# Altium schematic symbol library MT-MONITOR V1.0.0.SCHLIB: 48 symbols
Pins are listed as number, name and electrical type; pins without a type are passive.

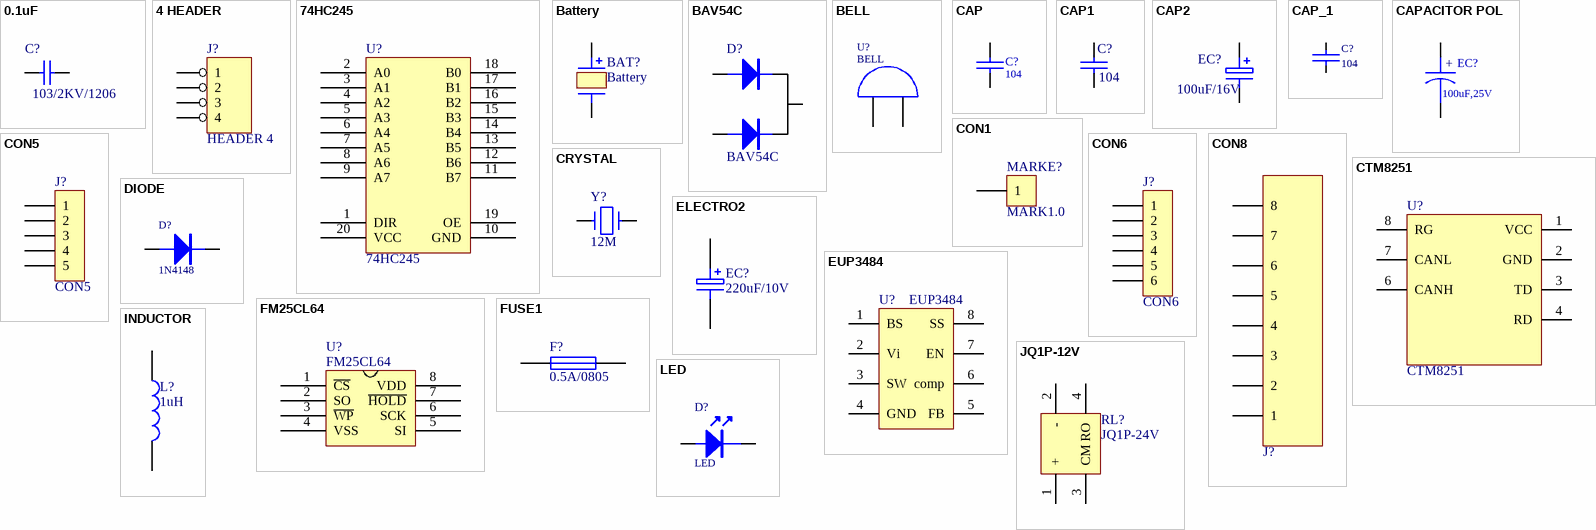
[diagram p0: symbols 0.1uF to LED]

## 0.1uF
designator C?, comment 103/2KV/1206
C0603; Published: *; LatestRevisionDate: *; LatestRevisionNote: *; Publisher: *; Value: *
footprint C0603
footprint CAPR2.54-5.1x3.2
footprint CAPR5.08-7.8x3.2
footprint 1206C
pins: 1, 2
2 alternate drawings of the same symbol

## 4 HEADER
designator J?, comment HEADER 4
4 Pin Header
footprint KF2EDG-4P-3.81mm
footprint LS141V-2.54-4P
pins: 1, 2, 3, 4
2 alternate drawings of the same symbol

## 74HC245
designator U?
footprint TSSOP20
pins: 1 DIR, 2 A0, 3 A1, 4 A2, 5 A3, 6 A4, 7 A5, 8 A6, 9 A7, 10 GND, 11 B7, 12 B6, 13 B5, 14 B4, 15 B3, 16 B2, 17 B1, 18 B0, 19 OE, 20 VCC
2 alternate drawings of the same symbol

## Battery
designator BAT?
footprint battery
pins: 1, 2

## BAV54C
designator D?
footprint SOT23
pins: 1 A, 2 K, 3 A

## BELL
designator U?
footprint BUZ
pins: 1 A, 2 B
2 alternate drawings of the same symbol

## CAP
designator C?, comment 104
Capacitor
footprint C0805
footprint CO20
footprint CO10
footprint 0603C
pins: 1, 2
2 alternate drawings of the same symbol

## CAP1
designator C?, comment 104
CAP
footprint C0805D
footprint 0603C
pins: 1, 2
2 alternate drawings of the same symbol

## CAP2
designator EC?, comment 100uF/16V
footprint SOT23
footprint C7
footprint C100UF16VEJ
pins: 1, 2
2 alternate drawings of the same symbol

## CAP_1
designator C?, comment 104
footprint C0.2
footprint CAP0.2
footprint 0805
footprint 0603C
pins: 1, 2
2 alternate drawings of the same symbol

## CAPACITOR POL
designator EC?, comment 100uF,25V
Capacitor
footprint C100UF16VEJ
pins: 1, 2
2 alternate drawings of the same symbol
text: +

## CON1
designator MARKE?, comment MARK1.0
Connector
footprint MARK1.0
pins: 1
2 alternate drawings of the same symbol

## CON5
designator J?
Connector
footprint USB-A
pins: 1, 2, 3, 4, 5
2 alternate drawings of the same symbol

## CON6
designator J?
Connector
footprint CON6-2.54mm-90
pins: 1, 2, 3, 4, 5, 6
2 alternate drawings of the same symbol

## CON8
designator J?  (value not drawn)
footprint HY-8A-2.00mm
pins: 1, 2, 3, 4, 5, 6, 7, 8

## CRYSTAL
designator Y?, comment 12M
footprint ZS-YZ
footprint ZS_SMD
pins: 1, 2
2 alternate drawings of the same symbol

## CTM8251
designator U?
footprint CTM8251KT
pins: 1 VCC, 2 GND, 3 TD, 4 RD, 6 CANH, 7 CANL, 8 RG

## DIODE
designator D?, comment 1N4148
footprint DR40
footprint D1206
footprint 1206D
pins: 1 A, 2 K
2 alternate drawings of the same symbol

## ELECTRO2
designator EC?, comment 220uF/10V
footprint C470UF25V
footprint C100UF16V
pins: 1, 2
2 alternate drawings of the same symbol

## EUP3484
designator U?
footprint SOP8
pins: 1 BS, 2 Vi, 3 SW, 4 GND, 5 FB, 6 comp, 7 EN, 8 SS
2 alternate drawings of the same symbol

## FM25CL64
designator U?
footprint SOP8
pins: 1 ~{CS}, 2 SO, 3 ~{WP}, 4 VSS, 5 SI, 6 SCK, 7 ~{HOLD}, 8 VDD
2 alternate drawings of the same symbol

## FUSE1
designator F?, comment 0.5A/0805
Fuse
footprint 0805R
pins: 1, 2
2 alternate drawings of the same symbol

## INDUCTOR
designator L?, comment 1uH
footprint 0805R
pins: 1, 2
2 alternate drawings of the same symbol

## JQ1P-12V
designator RL?, comment JQ1P-24V
footprint ZY1212FKS-2W
footprint HF32F-12V
pins: 1 +, 2 -, 3 CM, 4 RO
2 alternate drawings of the same symbol

## LED
designator D?
footprint LED1
footprint LED2
footprint D1206
footprint D0805
pins: 1, 2
2 alternate drawings of the same symbol

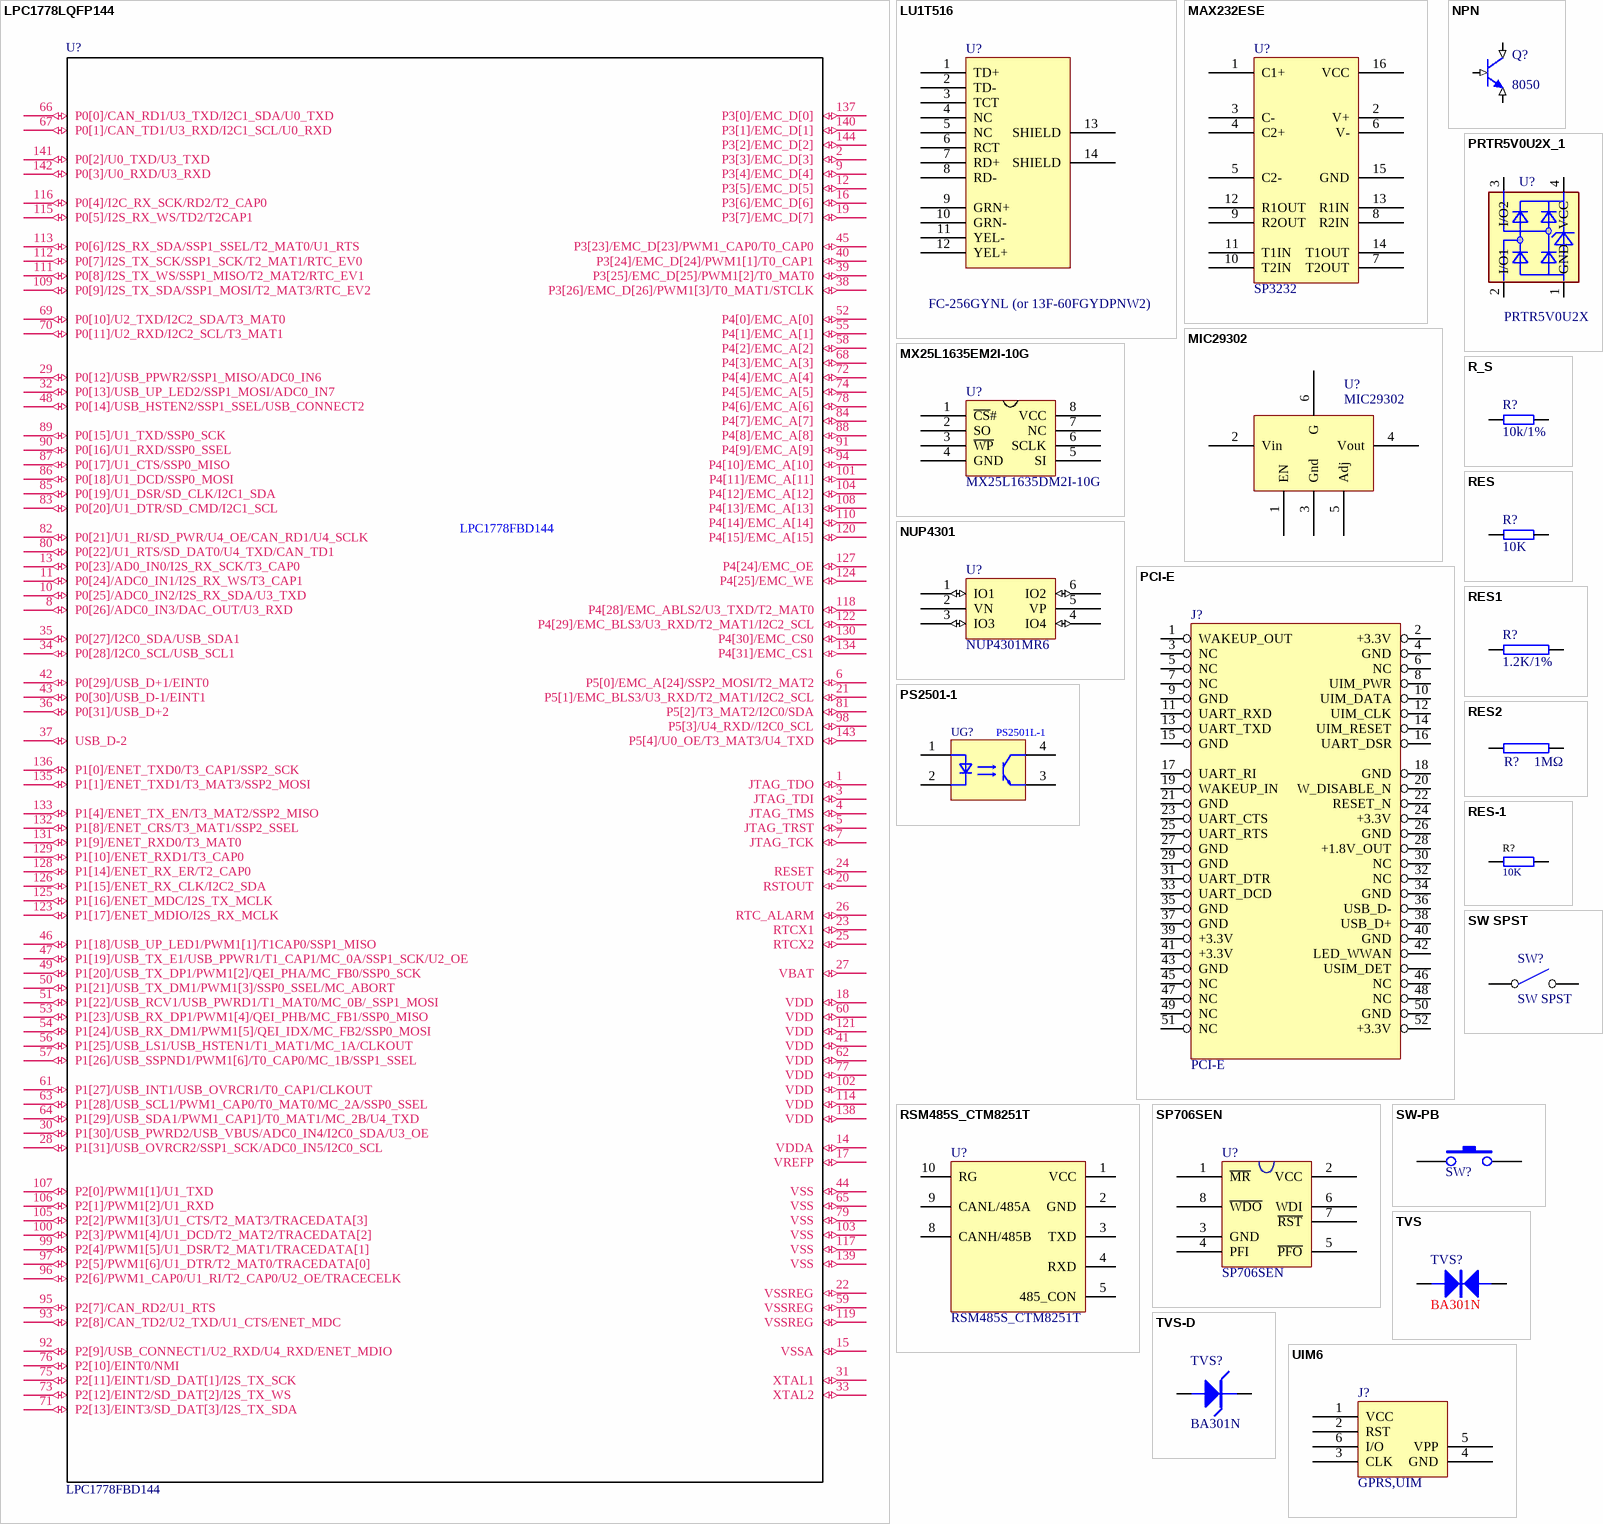
[diagram p1: symbols LPC1778LQFP144 to UIM6]

## LPC1778LQFP144
designator U?, comment LPC1778FBD144
footprint LC-LQFP-144_20x20x05P
pins: 1 JTAG_TDO (io), 2 P3[3]/EMC_D[3] (io), 3 JTAG_TDI (io), 4 JTAG_TMS (io), 5 JTAG_TRST (io), 6 P5[0]/EMC_A[24]/SSP2_MOSI/T2_MAT2 (io), 7 JTAG_TCK (io), 8 P0[26]/ADC0_IN3/DAC_OUT/U3_RXD (io), 9 P3[4]/EMC_D[4] (io), 10 P0[25]/ADC0_IN2/I2S_RX_SDA/U3_TXD (io), 11 P0[24]/ADC0_IN1/I2S_RX_WS/T3_CAP1 (io), 12 P3[5]/EMC_D[5] (io), 13 P0[23]/AD0_IN0/I2S_RX_SCK/T3_CAP0 (io), 14 VDDA (io), 15 VSSA (io), 16 P3[6]/EMC_D[6] (io), 17 VREFP (io), 18 VDD (io), 19 P3[7]/EMC_D[7] (io), 20 RSTOUT (io), 21 P5[1]/EMC_BLS3/U3_RXD/T2_MAT1/I2C2_SCL (io), 22 VSSREG (io), 23 RTCX1 (io), 24 RESET (io), 25 RTCX2 (io), 26 RTC_ALARM (io), 27 VBAT (io), 28 P1[31]/USB_OVRCR2/SSP1_SCK/ADC0_IN5/I2C0_SCL (io), 29 P0[12]/USB_PPWR2/SSP1_MISO/ADC0_IN6 (io), 30 P1[30]/USB_PWRD2/USB_VBUS/ADC0_IN4/I2C0_SDA/U3_OE (io), 31 XTAL1 (io), 32 P0[13]/USB_UP_LED2/SSP1_MOSI/ADC0_IN7 (io), 33 XTAL2 (io), 34 P0[28]/I2C0_SCL/USB_SCL1 (io), 35 P0[27]/I2C0_SDA/USB_SDA1 (io), 36 P0[31]/USB_D+2 (io), 37 USB_D-2 (io), 38 P3[26]/EMC_D[26]/PWM1[3]/T0_MAT1/STCLK (io), 39 P3[25]/EMC_D[25]/PWM1[2]/T0_MAT0 (io), 40 P3[24]/EMC_D[24]/PWM1[1]/T0_CAP1 (io), 41 VDD (io), 42 P0[29]/USB_D+1/EINT0 (io), 43 P0[30]/USB_D-1/EINT1 (io), 44 VSS (io), 45 P3[23]/EMC_D[23]/PWM1_CAP0/T0_CAP0 (io), 46 P1[18]/USB_UP_LED1/PWM1[1]/T1CAP0/SSP1_MISO (io), 47 P1[19]/USB_TX_E1/USB_PPWR1/T1_CAP1/MC_0A/SSP1_SCK/U2_OE (io), 48 P0[14]/USB_HSTEN2/SSP1_SSEL/USB_CONNECT2 (io), 49 P1[20]/USB_TX_DP1/PWM1[2]/QEI_PHA/MC_FB0/SSP0_SCK (io), 50 P1[21]/USB_TX_DM1/PWM1[3]/SSP0_SSEL/MC_ABORT (io), 51 P1[22]/USB_RCV1/USB_PWRD1/T1_MAT0/MC_0B/_SSP1_MOSI (io), 52 P4[0]/EMC_A[0] (io), 53 P1[23]/USB_RX_DP1/PWM1[4]/QEI_PHB/MC_FB1/SSP0_MISO (io), 54 P1[24]/USB_RX_DM1/PWM1[5]/QEI_IDX/MC_FB2/SSP0_MOSI (io), 55 P4[1]/EMC_A[1] (io), 56 P1[25]/USB_LS1/USB_HSTEN1/T1_MAT1/MC_1A/CLKOUT (io), 57 P1[26]/USB_SSPND1/PWM1[6]/T0_CAP0/MC_1B/SSP1_SSEL (io), 58 P4[2]/EMC_A[2] (io), 59 VSSREG (io), 60 VDD (io), 61 P1[27]/USB_INT1/USB_OVRCR1/T0_CAP1/CLKOUT (io), 62 VDD (io), 63 P1[28]/USB_SCL1/PWM1_CAP0/T0_MAT0/MC_2A/SSP0_SSEL (io), 64 P1[29]/USB_SDA1/PWM1_CAP1]/T0_MAT1/MC_2B/U4_TXD (io), 65 VSS (io), 66 P0[0]/CAN_RD1/U3_TXD/I2C1_SDA/U0_TXD (io), 67 P0[1]/CAN_TD1/U3_RXD/I2C1_SCL/U0_RXD (io), 68 P4[3]/EMC_A[3] (io), 69 P0[10]/U2_TXD/I2C2_SDA/T3_MAT0 (io), 70 P0[11]/U2_RXD/I2C2_SCL/T3_MAT1 (io), 71 P2[13]/EINT3/SD_DAT[3]/I2S_TX_SDA (io), 72 P4[4]/EMC_A[4] (io), 73 P2[12]/EINT2/SD_DAT[2]/I2S_TX_WS (io), 74 P4[5]/EMC_A[5] (io), 75 P2[11]/EINT1/SD_DAT[1]/I2S_TX_SCK (io), 76 P2[10]/EINT0/NMI (io), 77 VDD (io), 78 P4[6]/EMC_A[6] (io), 79 VSS (io), 80 P0[22]/U1_RTS/SD_DAT0/U4_TXD/CAN_TD1 (io), 81 P5[2]/T3_MAT2/I2C0/SDA (io), 82 P0[21]/U1_RI/SD_PWR/U4_OE/CAN_RD1/U4_SCLK (io), 83 P0[20]/U1_DTR/SD_CMD/I2C1_SCL (io), 84 P4[7]/EMC_A[7] (io), 85 P0[19]/U1_DSR/SD_CLK/I2C1_SDA (io), 86 P0[18]/U1_DCD/SSP0_MOSI (io), 87 P0[17]/U1_CTS/SSP0_MISO (io), 88 P4[8]/EMC_A[8] (io), 89 P0[15]/U1_TXD/SSP0_SCK (io), 90 P0[16]/U1_RXD/SSP0_SSEL (io), 91 P4[9]/EMC_A[9] (io), 92 P2[9]/USB_CONNECT1/U2_RXD/U4_RXD/ENET_MDIO (io), 93 P2[8]/CAN_TD2/U2_TXD/U1_CTS/ENET_MDC (io), 94 P4[10]/EMC_A[10] (io), 95 P2[7]/CAN_RD2/U1_RTS (io), 96 P2[6]/PWM1_CAP0/U1_RI/T2_CAP0/U2_OE/TRACECELK (io), 97 P2[5]/PWM1[6]/U1_DTR/T2_MAT0/TRACEDATA[0] (io), 98 P5[3]/U4_RXD//I2C0_SCL (io), 99 P2[4]/PWM1[5]/U1_DSR/T2_MAT1/TRACEDATA[1] (io), 100 P2[3]/PWM1[4]/U1_DCD/T2_MAT2/TRACEDATA[2] (io), 101 P4[11]/EMC_A[11] (io), 102 VDD (io), 103 VSS (io), 104 P4[12]/EMC_A[12] (io), 105 P2[2]/PWM1[3]/U1_CTS/T2_MAT3/TRACEDATA[3] (io), 106 P2[1]/PWM1[2]/U1_RXD (io), 107 P2[0]/PWM1[1]/U1_TXD (io), 108 P4[13]/EMC_A[13] (io), 109 P0[9]/I2S_TX_SDA/SSP1_MOSI/T2_MAT3/RTC_EV2 (io), 110 P4[14]/EMC_A[14] (io), 111 P0[8]/I2S_TX_WS/SSP1_MISO/T2_MAT2/RTC_EV1 (io), 112 P0[7]/I2S_TX_SCK/SSP1_SCK/T2_MAT1/RTC_EV0 (io), 113 P0[6]/I2S_RX_SDA/SSP1_SSEL/T2_MAT0/U1_RTS (io), 114 VDD (io), 115 P0[5]/I2S_RX_WS/TD2/T2CAP1 (io), 116 P0[4]/I2C_RX_SCK/RD2/T2_CAP0 (io), 117 VSS (io), 118 P4[28]/EMC_ABLS2/U3_TXD/T2_MAT0 (io), 119 VSSREG (io), 120 P4[15]/EMC_A[15] (io), 121 VDD (io), 122 P4[29]/EMC_BLS3/U3_RXD/T2_MAT1/I2C2_SCL (io), 123 P1[17]/ENET_MDIO/I2S_RX_MCLK (io), 124 P4[25]/EMC_WE (io), 125 P1[16]/ENET_MDC/I2S_TX_MCLK (io), 126 P1[15]/ENET_RX_CLK/I2C2_SDA (io), 127 P4[24]/EMC_OE (io), 128 P1[14]/ENET_RX_ER/T2_CAP0 (io), 129 P1[10]/ENET_RXD1/T3_CAP0 (io), 130 P4[30]/EMC_CS0 (io), 131 P1[9]/ENET_RXD0/T3_MAT0 (io), 132 P1[8]/ENET_CRS/T3_MAT1/SSP2_SSEL (io), 133 P1[4]/ENET_TX_EN/T3_MAT2/SSP2_MISO (io), 134 P4[31]/EMC_CS1 (io), 135 P1[1]/ENET_TXD1/T3_MAT3/SSP2_MOSI (io), 136 P1[0]/ENET_TXD0/T3_CAP1/SSP2_SCK (io), 137 P3[0]/EMC_D[0] (io), 138 VDD (io), 139 VSS (io), 140 P3[1]/EMC_D[1] (io), 141 P0[2]/U0_TXD/U3_TXD (io), 142 P0[3]/U0_RXD/U3_RXD (io), 143 P5[4]/U0_OE/T3_MAT3/U4_TXD (io), 144 P3[2]/EMC_D[2] (io)
2 alternate drawings of the same symbol

## LU1T516
designator U?, comment FC-256GYNL (or 13F-60FGYDPNW2)
LU1T516
footprint RJ45
footprint RJ45-2
pins: 1 TD+, 2 TD-, 3 TCT, 4 NC, 5 NC, 6 RCT, 7 RD+, 8 RD-, 9 GRN+, 10 GRN-, 11 YEL-, 12 YEL+, 13 SHIELD, 14 SHIELD
2 alternate drawings of the same symbol

## MAX232ESE
designator U?, comment SP3232
footprint SO-16
pins: 1 C1+, 2 V+, 3 C-, 4 C2+, 5 C2-, 6 V-, 7 T2OUT, 8 R2IN, 9 R2OUT, 10 T2IN, 11 T1IN, 12 R1OUT, 13 R1IN, 14 T1OUT, 15 GND, 16 VCC
2 alternate drawings of the same symbol

## MIC29302
designator U?
footprint TO5B
pins: 1 EN, 2 Vin, 3 Gnd, 4 Vout, 5 Adj, 6 G
2 alternate drawings of the same symbol

## MX25L1635EM2I-10G
designator U?, comment MX25L1635DM2I-10G
footprint MX25L1635E
pins: 1 ~{CS}#, 2 SO, 3 ~{WP}, 4 GND, 5 SI, 6 SCLK, 7 NC, 8 VCC
2 alternate drawings of the same symbol

## NPN
designator Q?, comment 8050
footprint SOT23
footprint TO92E
footprint TO92C
pins: 1 B (in), 2 C (in), 3 E (in)
2 alternate drawings of the same symbol

## NUP4301
designator U?, comment NUP4301MR6
NUP4301MR6T1
footprint TSOP-6
pins: 1 IO1 (io), 2 VN, 3 IO3 (io), 4 IO4 (io), 5 VP, 6 IO2 (io)
2 alternate drawings of the same symbol

## PCI-E
designator J?
footprint MC2716
pins: 1 WAKEUP_OUT, 2 +3.3V, 3 NC, 4 GND, 5 NC, 6 NC, 7 NC, 8 UIM_PWR, 9 GND, 10 UIM_DATA, 11 UART_RXD, 12 UIM_CLK, 13 UART_TXD, 14 UIM_RESET, 15 GND, 16 UART_DSR, 17 UART_RI, 18 GND, 19 WAKEUP_IN, 20 W_DISABLE_N, 21 GND, 22 RESET_N, 23 UART_CTS, 24 +3.3V, 25 UART_RTS, 26 GND, 27 GND, 28 +1.8V_OUT, 29 GND, 30 NC, 31 UART_DTR, 32 NC, 33 UART_DCD, 34 GND, 35 GND, 36 USB_D-, 37 GND, 38 USB_D+, 39 +3.3V, 40 GND, 41 +3.3V, 42 LED_WWAN, 43 GND, 44 USIM_DET, 45 NC, 46 NC, 47 NC, 48 NC, 49 NC, 50 GND, 51 NC, 52 +3.3V

## PRTR5V0U2X_1
designator U?, comment PRTR5V0U2X
footprint SOT-143B
pins: 1 GND, 2 I/O1, 3 I/O2, 4 VCC
2 alternate drawings of the same symbol

## PS2501-1
designator UG?, comment PS2501L-1
footprint DIP-4
pins: 1, 2, 3, 4
2 alternate drawings of the same symbol

## R_S
designator R?, comment 10k/1%
footprint 0603R
pins: 1, 2
2 alternate drawings of the same symbol

## RES
designator R?, comment 10K
footprint R0603
footprint R0805
footprint R1206
pins: 1, 2

## RES1
designator R?, comment 1.2K/1%
footprint 0603R
pins: 1, 2
2 alternate drawings of the same symbol

## RES2
designator R?, comment value 1MΩ  (hidden comment: 1M)
物料: 1.01.03.0019; 规: 1MΩ,1206,RoHS; 贴片: SMT; 现有: 16230; RoHS: RoHS; ComponentLink1Description: ErpDataInfo; ComponentLink1URL: http://192.168.0.2:8012/ErpExt/ErpData/ListMateriel.aspx?pkey=1.01.03.0019
footprint 1206R
pins: 1, 2
2 alternate drawings of the same symbol

## RES-1
designator R?, comment 10K
RES
footprint 0603-A
footprint AXIAL-0.29
footprint R-0603
footprint 0603R
pins: 1, 2
2 alternate drawings of the same symbol

## RSM485S_CTM8251T
designator U?
footprint Model Name
footprint RSM485
pins: 1 VCC, 2 GND, 3 TXD, 4 RXD, 5 485_CON, 8 CANH/485B, 9 CANL/485A, 10 RG
2 alternate drawings of the same symbol

## SP706SEN
designator U?
footprint SOP8
pins: 1 ~{MR}, 2 VCC, 3 GND, 4 PFI, 5 ~{PFO}, 6 WDI, 7 ~{RST}, 8 ~{WDO}
2 alternate drawings of the same symbol

## SW SPST
designator SW?
footprint SW1
pins: 1 COMMON, 2 NO
2 alternate drawings of the same symbol

## SW-PB
designator SW?, comment 按键  (value not drawn)
footprint SW
pins: 1, 2
2 alternate drawings of the same symbol

## TVS
designator TVS?, comment BA301N
footprint 3528TVS
pins: 1, 2
2 alternate drawings of the same symbol

## TVS-D
designator TVS?, comment BA301N
footprint 3528TVS
pins: 1, 2
2 alternate drawings of the same symbol

## UIM6
designator J?, comment GPRS,UIM
footprint SIM6
footprint SIM6-AUTO
pins: 1 VCC, 2 RST, 3 CLK, 4 GND, 5 VPP, 6 I/O
2 alternate drawings of the same symbol

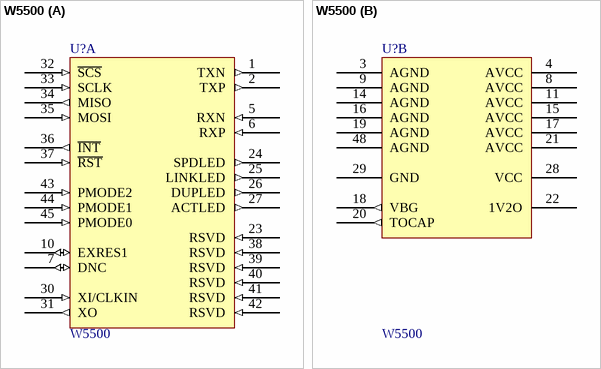
[diagram p2: symbol W5500]

## W5500
designator U?
footprint LQFP-48
footprint W5500
part A pins: 1 TXN (out), 2 TXP (out), 5 RXN (in), 6 RXP (in), 7 DNC (io), 10 EXRES1 (io), 23 RSVD (in), 24 SPDLED (out), 25 LINKLED (out), 26 DUPLED (out), 27 ACTLED (out), 30 XI/CLKIN (in), 31 XO (out), 32 ~{SCS} (in), 33 SCLK (in), 34 MISO (out), 35 MOSI (in), 36 ~{INT} (out), 37 ~{RST} (in), 38 RSVD (in), 39 RSVD (in), 40 RSVD (in), 41 RSVD (in), 42 RSVD (in), 43 PMODE2 (in), 44 PMODE1 (in), 45 PMODE0 (in)
part B pins: 3 AGND (power), 4 AVCC (power), 8 AVCC (power), 9 AGND (power), 11 AVCC (power), 14 AGND (power), 15 AVCC (power), 16 AGND (power), 17 AVCC (power), 18 VBG (out), 19 AGND (power), 20 TOCAP (out), 21 AVCC (power), 22 1V2O (power), 28 VCC (power), 29 GND (power), 48 AGND (power)
2 alternate drawings of the same symbol